# Altium footprint library diods.PcbLib: 43 footprints (part 2 of 3)
Each footprint in its own frame and in the unit in brackets; x right, y up, seen from the top. Pads: shape width x height; smd on the part's side, far side on the other; paste and mask are expansions set on the pad; w line width, h text height; cw(c..) or ccw(c..) is an arc to the next point about the centre after c.
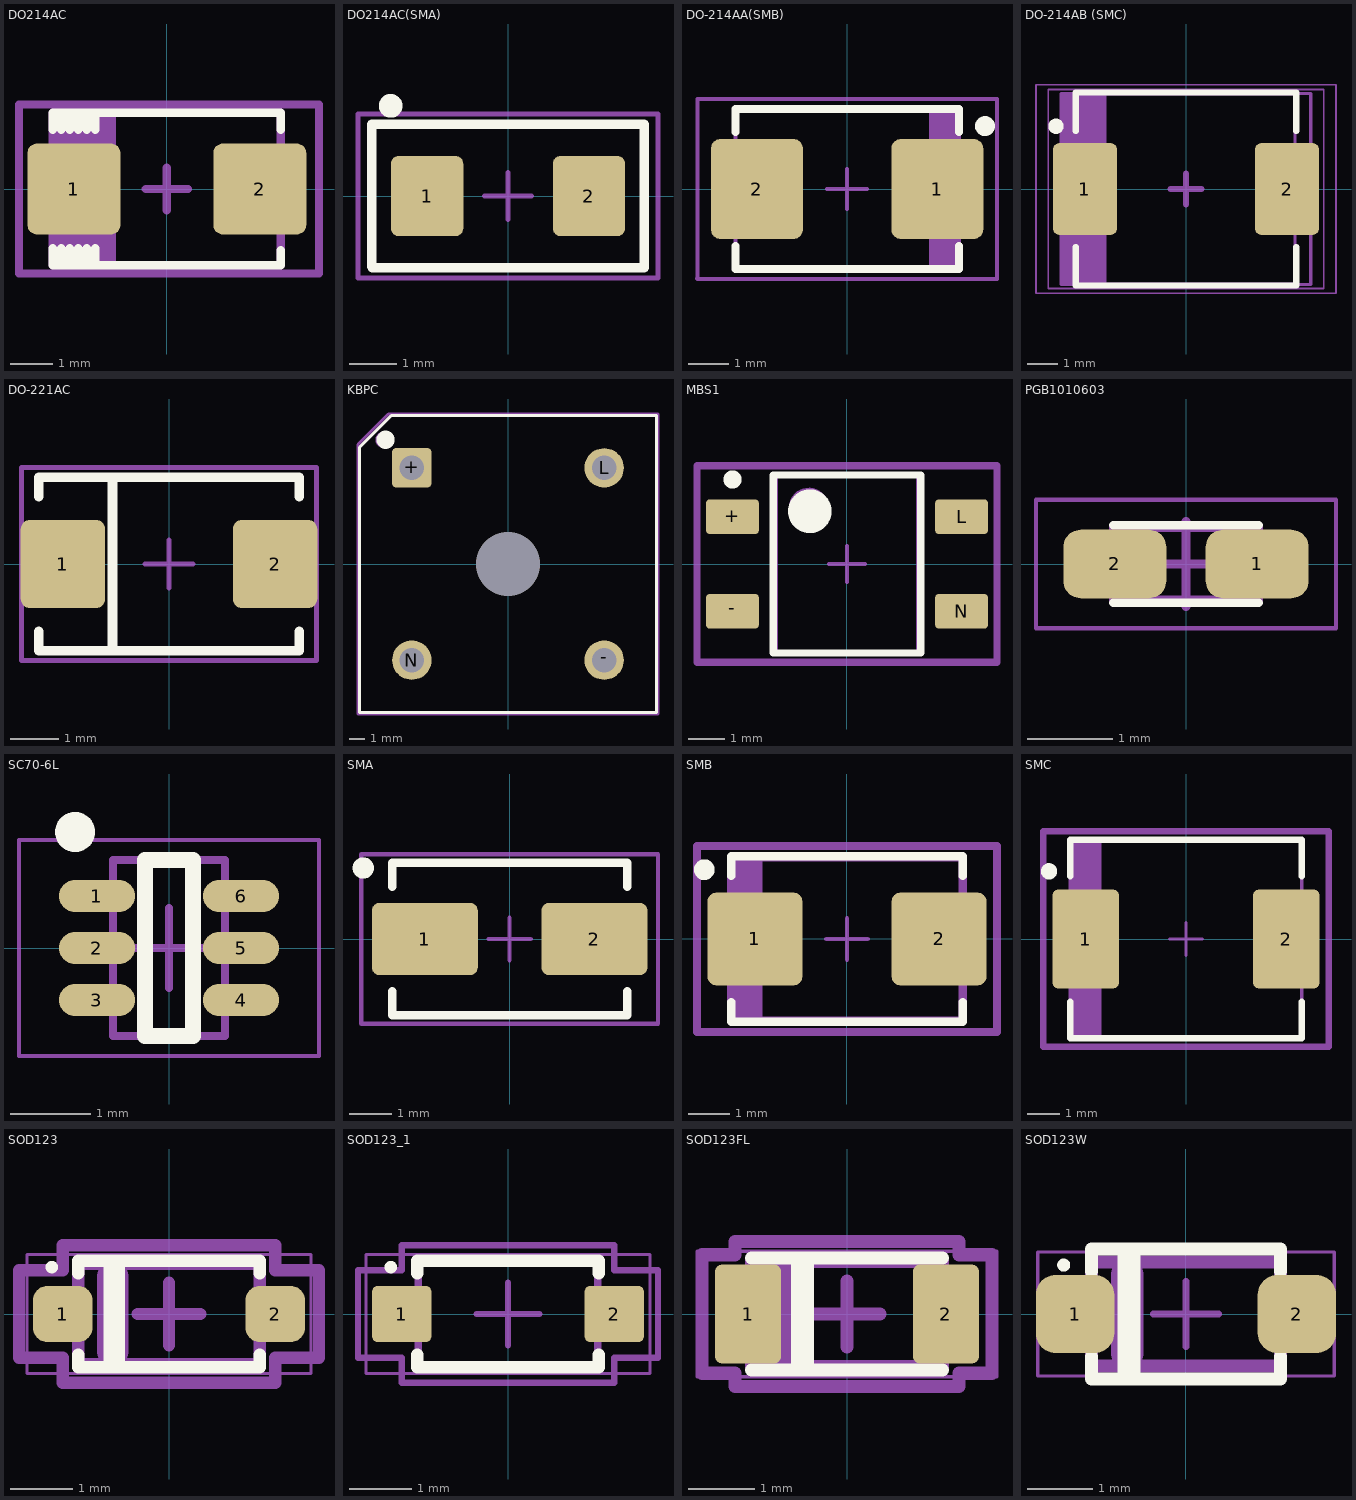
[diagram p1: the footprints below, top view; thin cyan lines are the x and y axes]

## DO214AC [mm]
pads (2):
  rrect20% 2.2x2.15 smd: 1(-2.2,0) 2(2.2,0)
Top Overlay:
  lines w0.2: -2.7,-1.4 -2.7,-1.8 2.7,-1.8 2.7,-1.45 ; -2.5,-1.8 -2.5,-1.4 ; -2.3,-1.8 -2.3,-1.4 ; -2.1,-1.8 -2.1,-1.4 ; -1.9,-1.8 -1.9,-1.4 ; -1.7,-1.8 -1.7,-1.4 ; 2.7,1.4 2.7,1.8 ; 2.7,1.45 2.7,1.8 ; -2.7,1.8 2.7,1.8 ; -2.7,1.8 -2.7,1.4 -2.7,1.8 ; -2.7,1.8 2.7,1.8 ; -2.5,1.4 -2.5,1.8 -2.5,1.4 ; -2.3,1.4 -2.3,1.8 -2.3,1.4 ; -2.1,1.4 -2.1,1.8 -2.1,1.4 ; -1.9,1.4 -1.9,1.8 -1.9,1.4 ; -1.7,1.4 -1.7,1.8 -1.7,1.4
M3_comm_top:
  text ".comment" at -0.9,-0.3 h1
M5_asm_top:
  lines w0.2: -2.5,-1.8 -2.5,1.8 ; -2.3,-1.8 -2.3,1.8 ; -2.1,-1.8 -2.1,1.8 ; -1.9,-1.8 -1.9,1.8 ; -1.7,-1.8 -1.7,1.8 ; -1.5,-1.8 -1.5,1.8 ; -1.3,-1.8 -1.3,1.8 ; -2.7,-1.8 2.7,-1.8 2.7,1.8 -2.7,1.8 -2.7,-1.8
  text ".Designator" at -1.1,2 h1
M7_courtyard_top:
  lines w0.2: -0.5,0 0.5,0 ; 0,-0.5 0,0.5 ; -3.5,-2 3.6,-2 3.6,2 -3.5,2 -3.5,-2
3D body "User Library-DIOM5528X26.step": height 2.6, standoff 0.03, extent -2.75,-1.4 2.75,1.4

## DO214AC(SMA) [mm] "DIODE AVALANCHE 200V 2A DO214AC"
pads (2):
  rrect20% 1.52x1.68 smd: 1(-1.7,0) 2(1.7,0)
Top Overlay:
  circle w0.25: c-2.465,1.895 r0.125
  lines w0.2: -2.861,-1.485 -2.861,1.504 2.861,1.504 2.861,-1.485 ; -2.856,-1.504 2.861,-1.504
M3_comm_top:
  text ".comment" at -0.9,-0.3 h1
M5_asm_top:
  lines w0.1: -2.861,-1.487 2.861,-1.487 ; -2.861,-1.477 -2.861,1.487 2.861,1.487 ; 2.861,-1.477 2.861,1.479
  text ".Designator" at -1.328,1.673 h1
M7_courtyard_top:
  lines w0.1: -3.15,-1.723 3.15,-1.723 ; -3.148,-1.723 -3.15,-1.721 -3.15,1.723 3.15,1.723 3.15,-1.723 ; -0.5,0 0.5,0 ; 0,-0.5 0,0.5
3D body "User Library-DIOM5528X26.step": height 2.6, standoff 0.03, extent -2.75,-1.4 2.75,1.4

## DO-214AA(SMB) [mm] "SMBJ30A , CDBB1200-HF, IPC High Density"
height 2.55
pads (2):
  rrect20% 2.3x2.5 smd: 1(2.258,0) 2(-2.258,0)
Top Overlay:
  circle w0.25: c3.45,1.575 r0.125
  lines w0.2: -2.8,-1.425 -2.8,-2 2.8,-2 2.8,-1.425 ; -2.8,1.425 -2.8,2 2.8,2 2.8,1.425
M3_comm_top:
  text ".comment" at -0.9,-0.288 h1
M5_asm_top:
  rectangle: 2.047,-1.975 2.8,1.975
  lines w0.1: -2.8,-1.975 -2.8,1.975 2.8,1.975 2.8,-1.975 -2.8,-1.975
  lines w0.2: 3.58,1.553 cw(c3.457,1.573) 3.582,1.573
  text ".Designator" at -1.127,2.343 h1
M7_courtyard_top:
  lines w0.1: -3.758,-2.239 -3.752,-2.245 ; -3.75,2.25 -3.75,-2.25 3.75,-2.25 3.75,2.25 -3.75,2.25 ; -0.5,0 0.5,0 ; 0,-0.5 0,0.5 ; 3.721,-2.245 3.727,-2.24
3D body "User Library-DO-214AA SMB.STEP": height 2.3, standoff 0, extent -2.701,-1.798 2.699,1.802

## DO-214AB (SMC) [mm] "DO214AB, IPC Medium Density"
height 2.45
pads (2):
  rrect20% 2.1x3 smd: 1(-3.3,0) 2(3.3,0)
Top Overlay:
  circle w0.25: c-4.25,2.05 r0.125
  lines w0.2: -3.6,-1.9 -3.6,-3.15 3.6,-3.15 3.6,-1.9 ; -3.6,1.9 -3.6,3.15 3.6,3.15 3.6,1.9
M3_comm_top:
  text ".comment" at -0.9,-0.3 h1
M5_asm_top:
  rectangle: -3.555,-3.11 -2.599,3.11
  lines w0.1: -3.555,-3.11 -3.555,3.11 3.555,3.11 3.555,-3.11 -3.555,-3.11
  text ".Designator" at -1,1.3 h1
M7_courtyard_top:
  lines w0.05: -4.5,-3.25 -4.5,3.25 4.5,3.25 4.5,-3.25 -4.5,-3.25
  lines w0.2: -0.5,0 0.5,0 ; 0,-0.5 0,0.5
Mechanical 13:
  rectangle: -4.075,-3.125 -2.979,3.125
  lines w0.1: -4.075,-3.125 -4.075,3.125 4.075,3.125 4.075,-3.125 -4.075,-3.125
Mechanical 15:
  lines w0.05: -4.9,-3.4 -4.9,3.4 4.9,3.4 4.9,-3.4 -4.9,-3.4
  lines w0.1: -0.5,0 0.5,0 ; 0,-0.5 0,0.5
3D body "DO214AB.step": height 2.45, standoff 0, extent -4.295,-3.125 4.295,3.125

## DO-221AC [mm] "VSSAF515-M3/H"
pads (2):
  rrect20% 1.75x1.82 smd: 1(-2.2,0) 2(2.2,0)
Top Overlay:
  lines w0.2: -2.7,-1.4 -2.7,-1.8 2.7,-1.8 2.7,-1.4 ; -1.17,-1.8 -1.17,1.8 ; -2.7,1.8 2.7,1.8 ; -2.7,1.8 -2.7,1.4 -2.7,1.8 ; -2.7,1.8 2.7,1.8 ; 2.7,1.8 2.7,1.4 2.7,1.8
M3_comm_top:
  text ".comment" at -0.635,-0.191 h1
M5_asm_top:
  lines w0.1: -2.7,-1.4 -2.7,-1.8 2.7,-1.8 2.7,-1.4 ; -2.7,1.4 -2.7,1.8 2.7,1.8 2.7,1.4 ; -1.178,-1.8 -1.178,1.8
  text ".Designator" at -1.132,2.049 h1
M7_courtyard_top:
  lines w0.1: -0.5,0 0.5,0 ; 0,-0.5 0,0.5 ; -3.06,-2 -3.06,2 3.06,2 3.06,-2 -3.06,-2
3D body "User Library-DO-221AC.STEP": height 1.2, standoff 0, extent -2.8,-1.473 2.8,1.477

## KBPC [mm] "KBPC1004 (BR1004)"
height 1.3
pads (5):
  rrect20% 2.6x2.6 hole 1.6: +(-6.35,6.35)
  round 2.6 hole 1.6: -(6.35,-6.35) L(6.35,6.35) N(-6.35,-6.35)
  round 4.2 hole 4.2 unplated: ""(0,0)
Top Overlay:
  circle w0.25: c-8.2,8.2 r0.125
  circle w0.6: c-8.075,8.2 r0.3
  lines w0.2: -9.8,-9.8 -9.8,7.7 -7.7,9.8 9.8,9.8 9.8,-9.8 -9.8,-9.8
M3_comm_top:
  text ".comment" at -0.9,-0.3 h1
M5_asm_top:
  circle w0.1: c-8.2,8.2 r0.5
  lines w0.2: -9.8,-9.8 -9.8,7.7 -7.7,9.8 9.8,9.8 9.8,-9.8 -9.8,-9.8
  text ".Designator" at -1,1.3 h1
  text "~" at -6,-4.7 h1.52
  text "~" at 6,3.8 h1.52
  text "+" at -6.7,3.6 h1.52
  text "-" at 6.5,-4.7 h1.52
M7_courtyard_top:
  lines w0.1: -0.5,0 0.5,0 ; 0,-0.5 0,0.5
  lines w0.2: -0.5,0 0.5,0 ; 0,-0.5 0,0.5 ; -9.9,-9.9 9.9,-9.9 9.9,9.9 -7.9,9.9 -9.9,7.9 -9.9,-9.9
3D body "KBPC10005.STEP": height 7.6, standoff -15, extent -9.75,-9.75 9.75,9.75

## MBS1 [mm] "MB10S, SOP, 4-Leads, Body 4,85x3,94mm, Pitch 2,60mm, IPC Medium Density"
height 2.7
pads (4):
  rrect20% 1.45x0.95 smd: +(-3.15,1.3) -(-3.15,-1.3) L(3.15,1.3) N(3.15,-1.3)
Top Overlay:
  circle w0.6: c-1.025,1.45 r0.3
  circle w0.25: c-3.15,2.325 r0.125
  lines w0.2: -2.025,-2.45 2.025,-2.45 2.025,2.45 -2.025,2.45 -2.025,-2.45
M3_comm_top:
  text ".comment" at -0.9,-0.3 h1
M5_asm_top:
  circle w0.1: c-1.05,1.55 r0.5
  lines w0.1: -1.95,-2.45 1.95,-2.45 1.95,2.45 -1.95,2.45 -1.95,-2.45
  text "-" at -3.275,-2.375 h1.52
  text "+" at -3.475,-0.175 h1.52
  text "~" at 2.75,-0.075 h1.52
  text "~" at 2.75,-2.575 h1.52
  text ".Designator" at -0.675,0.425 h1
M7_courtyard_top:
  lines w0.1: -0.5,0 0.5,0 ; 0,-0.5 0,0.5
  lines w0.2: -4.125,-2.7 4.125,-2.7 4.125,2.7 -4.125,2.7 -4.125,-2.7
3D body "MBS1.step": height 2.7, standoff 0, extent -3.45,-2.45 3.45,2.45

## PGB1010603 [mm] "SOD323, IPC Low Density"
height 1.1
pads (2):
  rrect50% 1.2x0.8 smd: 1(0.83,0) 2(-0.83,0)
Top Overlay:
  lines w0.1: -0.85,-0.45 0.85,-0.45 ; -0.85,0.45 0.85,0.45
Mechanical 13:
  lines w0.1: -0.85,-0.42 0.85,-0.42 0.85,0.425 -0.85,0.425 -0.85,-0.42
Mechanical 15:
  lines w0.05: -1.75,-0.75 1.75,-0.75 1.75,0.75 -1.75,0.75 -1.75,-0.75
  lines w0.1: -0.5,0 0.5,0 ; 0,-0.5 0,0.5
3D body "pgb1010603 littlefuse.step": height 0.39, standoff 0.03, extent -0.83,-0.42 0.83,0.42

## SC70-6L [mm] "SC70-6L, IPC Medium Density"
height 1.1
pads (6):
  oval 0.95x0.4 smd: 1(-0.9,0.65) 2(-0.9,0) 3(-0.9,-0.65) 4(0.9,-0.65) 5(0.9,0) 6(0.9,0.65)
Top Overlay:
  circle w0.25: c-1.175,1.45 r0.125
  lines w0.2: -0.3,-1.1 -0.3,1.1 0.3,1.1 0.3,-1.1 -0.3,-1.1
Mechanical 13:
  lines w0.1: -0.7,-1.1 -0.7,1.1 0.7,1.1 0.7,-1.1 -0.7,-1.1
Mechanical 15:
  lines w0.05: -1.875,-1.35 -1.875,1.35 1.875,1.35 1.875,-1.35 -1.875,-1.35
  lines w0.1: -0.5,0 0.5,0 ; 0,-0.5 0,0.5
3D body "SOT-363.step": height 1.05, standoff 0, extent -1.131,-1 1.131,1

## SMA [mm] "Diode Standard 1000V 1A Surface Mount SMA"
height 2.5
pads (2):
  rrect20% 2.5x1.7 smd: 1(-2,0) 2(2,0)
Top Overlay:
  circle w0.25: c-3.45,1.675 r0.125
  lines w0.2: -2.77,-1.227 -2.77,-1.803 2.77,-1.803 2.77,-1.227 ; -2.77,1.227 -2.77,1.803 2.77,1.803 2.77,1.227
M3_comm_top:
  text ".comment" at -0.9,-0.3 h1
M5_asm_top:
  lines w0.1: -2.77,-1.806 -2.77,-1.189 ; -2.77,-1.803 2.77,-1.803 ; -2.77,1.231 -2.77,1.785 ; -2.77,1.803 2.77,1.803 2.77,1.223 ; 2.77,-1.814 2.77,-1.228
  text ".Designator" at -1.727,2.074 h1
M7_courtyard_top:
  lines w0.1: -0.5,0 0.5,0 ; 0,-0.5 0,0.5 ; -3.5,-2 -3.5,2 3.5,2 3.5,-2 -3.5,-2
3D body "User Library-D_SMB.STEP": height 2.2, standoff 0.03, extent -2.662,-1.699 2.658,1.697

## SMB [mm] "STPS3L60U,  Molded Diode, 2-Leads, Body 5,60x3,95mm, IPC Medium Density"
height 2.5
pads (2):
  rrect20% 2.3x2.25 smd: 1(-2.225,0) 2(2.225,0)
Top Overlay:
  circle w0.25: c-3.45,1.675 r0.125
  lines w0.2: -2.8,-1.525 -2.8,-2 2.8,-2 2.8,-1.525 ; -2.8,1.525 -2.8,2 2.8,2 2.8,1.525
M3_comm_top:
  text ".comment" at -0.9,-0.3 h1
M5_asm_top:
  rectangle: -2.8,-1.975 -2.047,1.975
  lines w0.2: -2.8,-1.975 2.8,-1.975 2.8,1.975 -2.8,1.975 -2.8,-1.975
  text ".Designator" at -0.675,0.425 h1
M7_courtyard_top:
  lines w0.1: -0.5,0 0.5,0 ; 0,-0.5 0,0.5
  lines w0.2: -3.625,-2.25 3.625,-2.25 3.625,2.25 -3.625,2.25 -3.625,-2.25
3D body "SMB.step": height 2.5, standoff 0, extent -3.02,-1.975 3.02,1.975

## SMC [mm] "SZ1.5SMC30AT3G, Molded Diode, 2-Leads, Body 7,10x6,10mm, IPC Medium Density"
height 2.41
pads (2):
  rrect20% 2.05x3.05 smd: 1(-3.075,0) 2(3.075,0)
Top Overlay:
  circle w0.25: c-4.2,2.075 r0.125
  lines w0.2: -3.55,-1.925 -3.55,-3.05 3.55,-3.05 3.55,-1.925 ; -3.55,1.925 -3.55,3.05 3.55,3.05 3.55,1.925
M3_comm_top:
  text ".comment" at -0.9,-0.3 h1
M5_asm_top:
  rectangle: -3.55,-3.05 -2.595,3.05
  lines w0.1: -3.55,-3.05 3.55,-3.05 3.55,3.05 -3.55,3.05 -3.55,-3.05
  text ".Designator" at -0.675,0.425 h1
M7_courtyard_top:
  lines w0.1: -0.5,0 0.5,0 ; 0,-0.5 0,0.5
  lines w0.2: -4.375,-3.3 4.375,-3.3 4.375,3.3 -4.375,3.3 -4.375,-3.3
3D body "SMC.step": height 2.41, standoff 0, extent -3.77,-3.05 3.77,3.05

## SOD123 [mm] "SOD123, IPC High Density"
height 1.35
pads (2):
  rrect50% 0.95x0.9 smd mask+0.05: 1(-1.7,0) 2(1.7,0)
Top Overlay:
  circle w0.1: c-1.875,0.75 r0.05
  lines w0.2: -1.45,-0.65 -1.45,-0.85 1.45,-0.85 1.45,-0.65 ; -1.45,0.65 -1.45,0.85 1.45,0.85 1.45,0.65
  lines w0.35: -0.875,-0.775 -0.875,0.775
M3_comm_top:
  text ".comment" at -0.9,-0.3 h1
M5_asm_top:
  lines w0.2: -1.45,-0.8 1.45,-0.8 1.45,0.8 -1.45,0.8 -1.45,-0.8
  lines w0.5: -0.9,-0.6 -0.9,0.6
  text ".Designator" at -1,1.4 h1
M7_courtyard_top:
  lines w0.2: -0.5,0 0.5,0 ; 0,-0.5 0,0.5 ; -2.4,-0.7 -1.7,-0.7 -1.7,-1.1 1.7,-1.1 1.7,-0.7 2.4,-0.7 2.4,0.7 1.7,0.7 1.7,1.1 -1.7,1.1 -1.7,0.7 -2.4,0.7 -2.4,-0.7
Mechanical 13:
  lines w0.1: -1.425,-0.85 -1.425,0.85 1.425,0.85 1.425,-0.85 -1.425,-0.85
Mechanical 15:
  lines w0.05: -2.275,-0.95 -2.275,0.95 2.275,0.95 2.275,-0.95 -2.275,-0.95
  lines w0.1: -0.5,0 0.5,0 ; 0,-0.5 0,0.5
3D body "SOD123.step": height 1.27, standoff 0, extent -1.85,-0.8 1.85,0.8

## SOD123_1 [mm] "BZT52C20-13-F, SOD123, IPC High Density"
height 1.35
pads (2):
  rrect20% 0.95x0.9 smd mask+0.05: 1(-1.7,0) 2(1.7,0)
Top Overlay:
  circle w0.1: c-1.875,0.75 r0.05
  lines w0.2: -1.45,-0.65 -1.45,-0.85 1.45,-0.85 1.45,-0.65 ; -1.45,0.65 -1.45,0.85 1.45,0.85 1.45,0.65
M3_comm_top:
  text ".comment" at -1.17,-0.294 h1
M5_asm_top:
  lines w0.1: -1.45,-0.8 -1.45,0.8 1.45,0.8 1.45,-0.8 -1.45,-0.8
  text ".Designator" at -1,1.4 h1
M7_courtyard_top:
  lines w0.1: -0.5,0 0.5,0 ; 0,-0.5 0,0.5 ; -2.4,-0.7 -2.4,0.7 -1.7,0.7 -1.7,1.1 1.7,1.1 1.7,0.7 2.4,0.7 2.4,-0.7 1.7,-0.7 1.7,-1.1 -1.7,-1.1 -1.7,-0.7 -2.4,-0.7
Mechanical 13:
  lines w0.1: -1.425,-0.85 1.425,-0.85 1.425,0.85 -1.425,0.85 -1.425,-0.85
Mechanical 15:
  lines w0.05: -2.275,-0.95 2.275,-0.95 2.275,0.95 -2.275,0.95 -2.275,-0.95
  lines w0.1: -0.5,0 0.5,0 ; 0,-0.5 0,0.5
3D body "SOD123.step": height 1.27, standoff 0, extent -1.85,-0.8 1.85,0.8

## SOD123FL [mm] "SOD123FL, G1A THRU G1M"
height 1.35
pads (2):
  rrect20% 1x1.5 smd mask+0.05: 1(-1.5,0) 2(1.5,0)
Top Overlay:
  lines w0.2: -1.45,-0.85 1.45,-0.85 ; -1.45,0.85 1.45,0.85
  lines w0.35: -0.675,-0.775 -0.675,0.775
M3_comm_top:
  text ".comment" at -0.9,-0.3 h1
M5_asm_top:
  lines w0.2: -1.45,-0.8 1.45,-0.8 1.45,0.8 -1.45,0.8 -1.45,-0.8
  lines w0.5: -0.9,-0.6 -0.9,0.6
  text ".Designator" at -1,1.4 h1
M7_courtyard_top:
  lines w0.2: -0.5,0 0.5,0 ; 0,-0.5 0,0.5 ; -2.2,-0.9 -1.7,-0.9 -1.7,-1.1 1.7,-1.1 1.7,-0.9 2.2,-0.9 2.2,0.9 1.7,0.9 1.7,1.1 -1.7,1.1 -1.7,0.9 -2.2,0.9 -2.2,-0.9
Mechanical 13:
  lines w0.1: -1.425,-0.85 -1.425,0.85 1.425,0.85 1.425,-0.85 -1.425,-0.85
Mechanical 15:
  lines w0.05: -2.275,-0.95 -2.275,0.95 2.275,0.95 2.275,-0.95 -2.275,-0.95
  lines w0.1: -0.5,0 0.5,0 ; 0,-0.5 0,0.5
3D body "User Library-SOD-123FL CASE 498.step": height 0.95, standoff 0, extent -1.8,-0.825 1.8,0.825

## SOD123W [mm] "SOD123, IPC High Density"
height 1.35
pads (2):
  rrect50% 1.2x1.2 smd mask+0.05: 1(-1.7,0) 2(1.7,0)
Top Overlay:
  circle w0.1: c-1.875,0.75 r0.05
  lines w0.2: -1.45,-0.65 -1.45,-1 1.45,-1 1.45,-0.65 ; -1.45,0.65 -1.45,1 1.45,1 1.45,0.65
  lines w0.35: -0.875,-0.9 -0.875,0.9
M5_asm_top:
  lines w0.2: -1.45,-0.8 1.45,-0.8 1.45,0.8 -1.45,0.8 -1.45,-0.8
  lines w0.5: -0.9,-0.6 -0.9,0.6
  text ".Designator" at -1,1.4 h1
Mechanical 13:
  lines w0.1: -1.425,-0.85 1.425,-0.85 1.425,0.85 -1.425,0.85 -1.425,-0.85
Mechanical 15:
  lines w0.05: -2.275,-0.95 2.275,-0.95 2.275,0.95 -2.275,0.95 -2.275,-0.95
  lines w0.1: -0.5,0 0.5,0 ; 0,-0.5 0,0.5
3D body "SOD123W.step": height 1.1, standoff -0.01, extent -2,-0.95 2,0.95